# Altium schematic symbol library GNSS.SchLib: 22 symbols
Pins are listed as number, name and electrical type; pins without a type are passive.

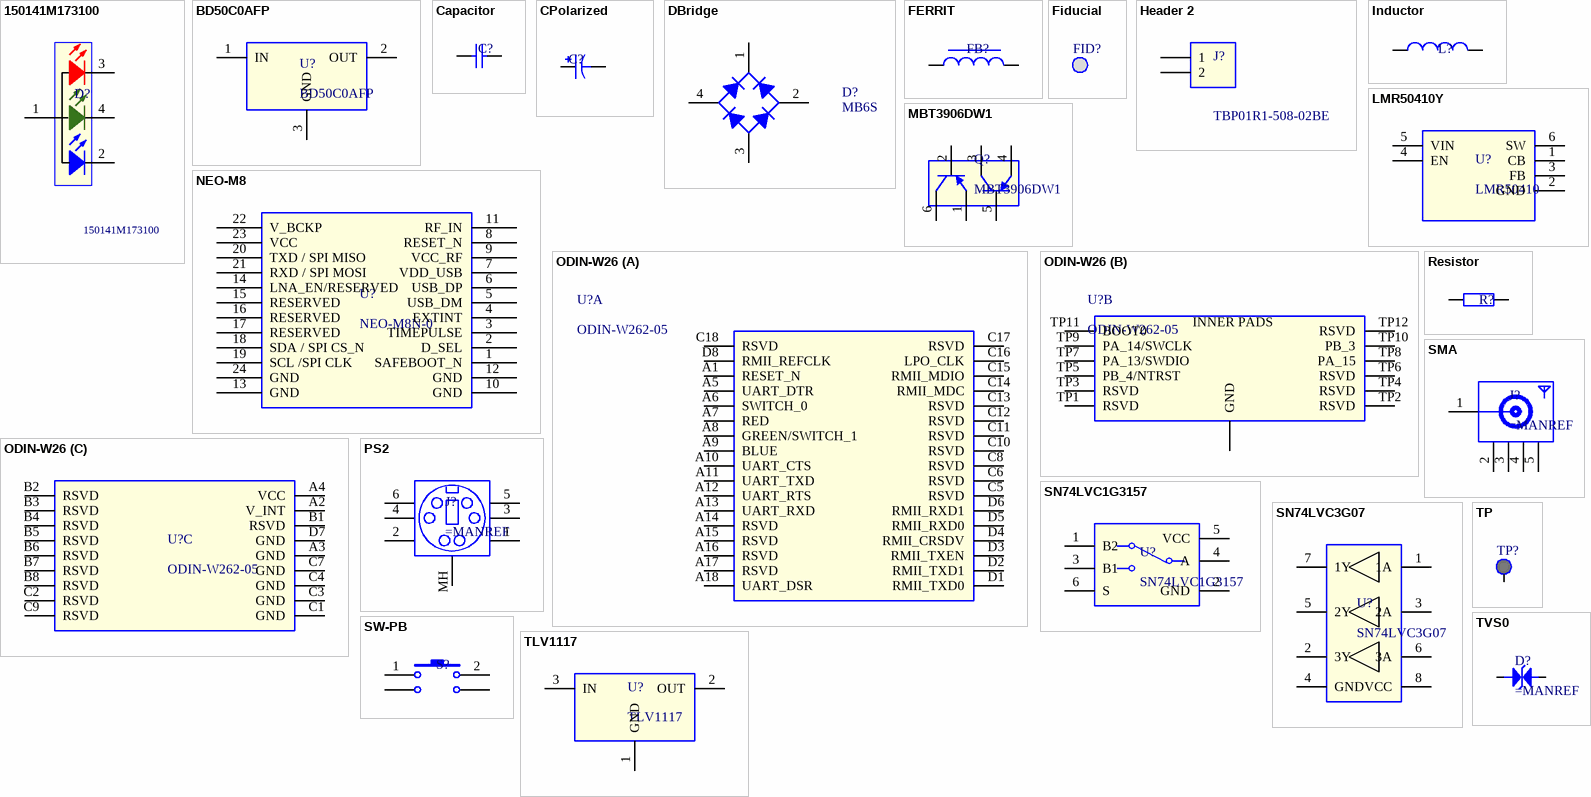
[diagram p0: symbols 150141M173100 to TVS0]

## 150141M173100
designator D?
pins: 1 A, 2 K, 3 K, 4 K

## BD50C0AFP
designator U?
pins: 1 IN, 2 OUT, 3 GND

## Capacitor
designator C?
pins: 1, 2

## CPolarized
designator C?
pins: 1, 2
1 alternate drawing of the same symbol

## DBridge
designator D?, comment MB6S
pins: 1 K, 2 C, 3 A, 4 C

## FERRIT
designator FB?
pins: 1, 2

## Fiducial
designator FID?  (value not drawn)

## Header 2
designator J?, comment TBP01R1-508-02BE
pins: 1, 2

## Inductor
designator L?
pins: 1, 2

## LMR50410Y
designator U?, comment LMR50410
pins: 1 CB, 2 GND, 3 FB, 4 EN, 5 VIN, 6 SW

## MBT3906DW1
designator Q?
pins: 1 E2, 2 B2, 3 C1, 4 E1, 5 B1, 6 C2

## NEO-M8
designator U?, comment NEO-M8N-0
pins: 1 SAFEBOOT_N, 2 D_SEL, 3 TIMEPULSE, 4 EXTINT, 5 USB_DM, 6 USB_DP, 7 VDD_USB, 8 RESET_N, 9 VCC_RF, 10 GND, 11 RF_IN, 12 GND, 13 GND, 14 LNA_EN/RESERVED, 15 RESERVED, 16 RESERVED, 17 RESERVED, 18 SDA / SPI CS_N, 19 SCL /SPI CLK, 20 TXD / SPI MISO, 21 RXD / SPI MOSI, 22 V_BCKP, 23 VCC, 24 GND

## ODIN-W26
designator U?, comment ODIN-W262-05
part A pins: A1 RESET_N, A5 UART_DTR, A6 SWITCH_0, A7 RED, A8 GREEN/SWITCH_1, A9 BLUE, A10 UART_CTS, A11 UART_TXD, A12 UART_RTS, A13 UART_RXD, A14 RSVD, A15 RSVD, A16 RSVD, A17 RSVD, A18 UART_DSR, C5 RSVD, C6 RSVD, C8 RSVD, C10 RSVD, C11 RSVD, C12 RSVD, C13 RSVD, C14 RMII_MDC, C15 RMII_MDIO, C16 LPO_CLK, C17 RSVD, C18 RSVD, D1 RMII_TXD0, D2 RMII_TXD1, D3 RMII_TXEN, D4 RMII_CRSDV, D5 RMII_RXD0, D6 RMII_RXD1, D8 RMII_REFCLK
part B pins: GND, TP1 RSVD, TP2 RSVD, TP3 RSVD, TP4 RSVD, TP5 PB_4/NTRST, TP6 RSVD, TP7 PA_13/SWDIO, TP8 PA_15, TP9 PA_14/SWCLK, TP10 PB_3, TP11 BOOT0, TP12 RSVD
part C pins: A2 V_INT, A3 GND, A4 VCC, B1 RSVD, B2 RSVD, B3 RSVD, B4 RSVD, B5 RSVD, B6 RSVD, B7 RSVD, B8 RSVD, C1 GND, C2 RSVD, C3 GND, C4 GND, C7 GND, C9 RSVD, D7 GND
part B text: INNER PADS

## PS2
designator J?
pins: 1, 2, 3, 4, 5, 6, MH

## Resistor
designator R?
pins: 1, 2

## SMA
designator J?
pins: 1, 2, 3, 4, 5

## SN74LVC1G3157
designator U?
pins: 1 B2, 2 GND, 3 B1, 4 A, 5 VCC, 6 S

## SN74LVC3G07
designator U?
pins: 1 1A, 2 3Y, 3 2A, 4 GND, 5 2Y, 6 3A, 7 1Y, 8 VCC

## SW-PB
designator S?
pins: 1, 2, MH, MH

## TLV1117
designator U?
pins: 1 GND, 2 OUT, 3 IN

## TP
designator TP?, comment Test Point  (value not drawn)  (no BOM)
pins: 1

## TVS0
designator D?
pins: 1, 2 K1A2